# Altium footprint library MOLEX_105450-0101.PcbLib: 1 footprints
Each footprint in its own frame and in the unit in brackets; x right, y up, seen from the top. Pads: shape width x height; smd on the part's side, far side on the other; paste and mask are expansions set on the pad; w line width, h text height; cw(c..) or ccw(c..) is an arc to the next point about the centre after c.
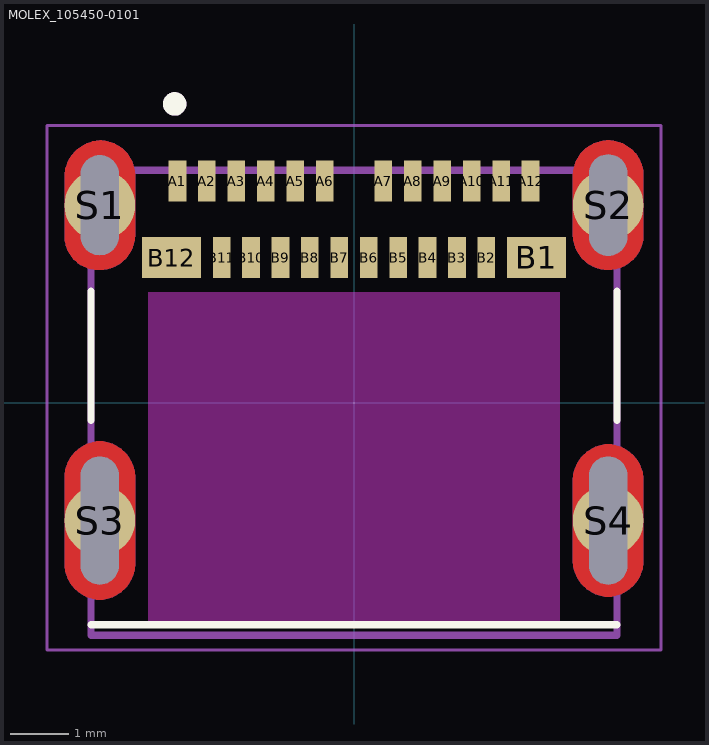
[diagram p0: the footprint, top view; thin cyan lines are the x and y axes]

## MOLEX_105450-0101 [mm]
pads (28):
  rect 0.3x0.7 smd: A1(-3,3.77) A2(-2.5,3.77) A3(-2,3.77) A4(-1.5,3.77) A5(-1,3.77) A6(-0.5,3.77) A7(0.5,3.77) A8(1,3.77) A9(1.5,3.77) A10(2,3.77) A11(2.5,3.77) A12(3,3.77) B2(2.25,2.47) B3(1.75,2.47) B4(1.25,2.47) B5(0.75,2.47) B6(0.25,2.47) B7(-0.25,2.47) B8(-0.75,2.47) B9(-1.25,2.47) B10(-1.75,2.47) B11(-2.25,2.47)
  rect 1x0.7 smd: B1(3.1,2.47) B12(-3.1,2.47)
  round 1.2 hole 0.65 slot 1.7 at 90 deg mask+0: S1(-4.32,3.36)
  round 1.2 hole 0.65 slot 1.725 at 90 deg mask+0: S2(4.32,3.36)
  round 1.2 hole 0.65 slot 2.175 at 90 deg mask+0: S3(-4.32,-2) S4(4.32,-2)
Top Layer:
  region: -4.289,4.459 -4.257,4.457 -4.226,4.453 -4.195,4.447 -4.165,4.44 -4.135,4.431 -4.105,4.42 -4.076,4.408 -4.048,4.395 -4.02,4.38 -3.993,4.363 -3.967,4.345 -3.942,4.326 -3.919,4.306 -3.896,4.284 -3.874,4.261 -3.854,4.238 -3.835,4.213 -3.817,4.187 -3.8,4.16 -3.785,4.132 -3.772,4.104 -3.76,4.075 -3.749,4.045 -3.74,4.015 -3.733,3.985 -3.727,3.954 -3.723,3.923 -3.721,3.891 -3.72,3.86 -3.72,2.86 -3.721,2.829 -3.723,2.797 -3.727,2.766 -3.733,2.735 -3.74,2.705 -3.749,2.675 -3.76,2.645 -3.772,2.616 -3.785,2.588 -3.8,2.56 -3.817,2.533 -3.835,2.507 -3.854,2.482 -3.874,2.459 -3.896,2.436 -3.919,2.414 -3.942,2.394 -3.967,2.375 -3.993,2.357 -4.02,2.34 -4.048,2.325 -4.076,2.312 -4.105,2.3 -4.135,2.289 -4.165,2.28 -4.195,2.273 -4.226,2.267 -4.257,2.263 -4.289,2.261 -4.32,2.26 -4.355,2.26 -4.385,2.261 -4.415,2.264 -4.445,2.268 -4.474,2.274 -4.504,2.282 -4.532,2.291 -4.561,2.301 -4.588,2.313 -4.615,2.327 -4.641,2.342 -4.667,2.358 -4.691,2.375 -4.715,2.394 -4.738,2.414 -4.759,2.435 -4.779,2.457 -4.799,2.481 -4.816,2.505 -4.833,2.53 -4.848,2.556 -4.862,2.583 -4.875,2.61 -4.886,2.638 -4.895,2.667 -4.903,2.696 -4.91,2.725 -4.915,2.755 -4.918,2.785 -4.92,2.81 -4.92,3.81 -4.92,3.846 -4.919,3.879 -4.916,3.911 -4.911,3.944 -4.904,3.976 -4.896,4.007 -4.886,4.039 -4.875,4.069 -4.862,4.099 -4.847,4.129 -4.831,4.157 -4.814,4.185 -4.795,4.211 -4.774,4.237 -4.752,4.262 -4.73,4.285 -4.705,4.307 -4.68,4.328 -4.654,4.347 -4.626,4.365 -4.598,4.382 -4.569,4.397 -4.539,4.411 -4.509,4.423 -4.478,4.433 -4.446,4.442 -4.414,4.449 -4.382,4.454 -4.35,4.458 -4.32,4.46
  region: 4.351,4.459 4.383,4.457 4.414,4.453 4.445,4.447 4.475,4.44 4.505,4.431 4.535,4.42 4.564,4.408 4.592,4.395 4.62,4.38 4.647,4.363 4.673,4.345 4.698,4.326 4.721,4.306 4.744,4.284 4.766,4.261 4.786,4.238 4.805,4.213 4.823,4.187 4.84,4.16 4.855,4.132 4.868,4.104 4.88,4.075 4.891,4.045 4.9,4.015 4.907,3.985 4.913,3.954 4.917,3.923 4.919,3.891 4.92,3.86 4.92,2.86 4.919,2.829 4.917,2.797 4.913,2.766 4.907,2.735 4.9,2.705 4.891,2.675 4.88,2.645 4.868,2.616 4.855,2.588 4.84,2.56 4.823,2.533 4.805,2.507 4.786,2.482 4.766,2.459 4.744,2.436 4.721,2.414 4.698,2.394 4.673,2.375 4.647,2.357 4.62,2.34 4.592,2.325 4.564,2.312 4.535,2.3 4.505,2.289 4.475,2.28 4.445,2.273 4.414,2.267 4.383,2.263 4.351,2.261 4.32,2.26 4.289,2.261 4.257,2.263 4.226,2.267 4.195,2.273 4.165,2.28 4.135,2.289 4.105,2.3 4.076,2.312 4.048,2.325 4.02,2.34 3.993,2.357 3.967,2.375 3.942,2.394 3.919,2.414 3.896,2.436 3.874,2.459 3.854,2.482 3.835,2.507 3.817,2.533 3.8,2.56 3.785,2.588 3.772,2.616 3.76,2.645 3.749,2.675 3.74,2.705 3.733,2.735 3.727,2.766 3.723,2.797 3.721,2.829 3.72,2.86 3.72,3.86 3.721,3.891 3.723,3.923 3.727,3.954 3.733,3.985 3.74,4.015 3.749,4.045 3.76,4.075 3.772,4.104 3.785,4.132 3.8,4.16 3.817,4.187 3.835,4.213 3.854,4.238 3.874,4.261 3.896,4.284 3.919,4.306 3.942,4.326 3.967,4.345 3.993,4.363 4.02,4.38 4.048,4.395 4.076,4.408 4.105,4.42 4.135,4.431 4.165,4.44 4.195,4.447 4.226,4.453 4.257,4.457 4.289,4.459 4.32,4.46
  region: -4.29,-0.652 -4.258,-0.656 -4.226,-0.661 -4.194,-0.668 -4.162,-0.677 -4.131,-0.687 -4.101,-0.699 -4.071,-0.713 -4.042,-0.728 -4.014,-0.745 -3.986,-0.763 -3.96,-0.782 -3.935,-0.803 -3.91,-0.825 -3.888,-0.848 -3.866,-0.873 -3.845,-0.899 -3.826,-0.925 -3.809,-0.953 -3.793,-0.981 -3.778,-1.011 -3.765,-1.041 -3.754,-1.071 -3.744,-1.103 -3.736,-1.134 -3.729,-1.166 -3.724,-1.199 -3.721,-1.231 -3.72,-1.264 -3.72,-1.3 -3.72,-2.7 -3.72,-2.736 -3.721,-2.769 -3.724,-2.801 -3.729,-2.834 -3.736,-2.866 -3.744,-2.897 -3.754,-2.929 -3.765,-2.959 -3.778,-2.989 -3.793,-3.019 -3.809,-3.047 -3.826,-3.075 -3.845,-3.101 -3.866,-3.127 -3.888,-3.152 -3.91,-3.175 -3.935,-3.197 -3.96,-3.218 -3.986,-3.237 -4.014,-3.255 -4.042,-3.272 -4.071,-3.287 -4.101,-3.301 -4.131,-3.313 -4.162,-3.323 -4.194,-3.332 -4.226,-3.339 -4.258,-3.344 -4.29,-3.348 -4.32,-3.35 -4.35,-3.348 -4.382,-3.344 -4.414,-3.339 -4.446,-3.332 -4.478,-3.323 -4.509,-3.313 -4.539,-3.301 -4.569,-3.287 -4.598,-3.272 -4.626,-3.255 -4.654,-3.237 -4.68,-3.218 -4.705,-3.197 -4.73,-3.175 -4.752,-3.152 -4.774,-3.127 -4.795,-3.101 -4.814,-3.075 -4.831,-3.047 -4.847,-3.019 -4.862,-2.989 -4.875,-2.959 -4.886,-2.929 -4.896,-2.897 -4.904,-2.866 -4.911,-2.834 -4.916,-2.801 -4.919,-2.769 -4.92,-2.736 -4.92,-2.7 -4.92,-1.3 -4.92,-1.264 -4.919,-1.231 -4.916,-1.199 -4.911,-1.166 -4.904,-1.134 -4.896,-1.103 -4.886,-1.071 -4.875,-1.041 -4.862,-1.011 -4.847,-0.981 -4.831,-0.953 -4.814,-0.925 -4.795,-0.899 -4.774,-0.873 -4.752,-0.848 -4.73,-0.825 -4.705,-0.803 -4.68,-0.782 -4.654,-0.763 -4.626,-0.745 -4.598,-0.728 -4.569,-0.713 -4.539,-0.699 -4.509,-0.687 -4.478,-0.677 -4.446,-0.668 -4.414,-0.661 -4.382,-0.656 -4.35,-0.652 -4.32,-0.65
  region: 4.35,-0.702 4.382,-0.706 4.414,-0.711 4.446,-0.718 4.478,-0.727 4.509,-0.737 4.539,-0.749 4.569,-0.763 4.598,-0.778 4.626,-0.795 4.654,-0.813 4.68,-0.832 4.705,-0.853 4.73,-0.875 4.752,-0.898 4.774,-0.923 4.795,-0.949 4.814,-0.975 4.831,-1.003 4.847,-1.031 4.862,-1.061 4.875,-1.091 4.886,-1.121 4.896,-1.153 4.904,-1.184 4.911,-1.216 4.916,-1.249 4.919,-1.281 4.92,-1.314 4.92,-1.35 4.92,-2.65 4.92,-2.686 4.919,-2.719 4.916,-2.751 4.911,-2.784 4.904,-2.816 4.896,-2.847 4.886,-2.879 4.875,-2.909 4.862,-2.939 4.847,-2.969 4.831,-2.997 4.814,-3.025 4.795,-3.051 4.774,-3.077 4.752,-3.102 4.73,-3.125 4.705,-3.147 4.68,-3.168 4.654,-3.187 4.626,-3.205 4.598,-3.222 4.569,-3.237 4.539,-3.251 4.509,-3.263 4.478,-3.273 4.446,-3.282 4.414,-3.289 4.382,-3.294 4.35,-3.298 4.32,-3.3 4.29,-3.298 4.258,-3.294 4.226,-3.289 4.194,-3.282 4.162,-3.273 4.131,-3.263 4.101,-3.251 4.071,-3.237 4.042,-3.222 4.014,-3.205 3.986,-3.187 3.96,-3.168 3.935,-3.147 3.91,-3.125 3.888,-3.102 3.866,-3.077 3.845,-3.051 3.826,-3.025 3.809,-2.997 3.793,-2.969 3.778,-2.939 3.765,-2.909 3.754,-2.879 3.744,-2.847 3.736,-2.816 3.729,-2.784 3.724,-2.751 3.721,-2.719 3.72,-2.686 3.72,-2.65 3.72,-1.35 3.72,-1.314 3.721,-1.281 3.724,-1.249 3.729,-1.216 3.736,-1.184 3.744,-1.153 3.754,-1.121 3.765,-1.091 3.778,-1.061 3.793,-1.031 3.809,-1.003 3.826,-0.975 3.845,-0.949 3.866,-0.923 3.888,-0.898 3.91,-0.875 3.935,-0.853 3.96,-0.832 3.986,-0.813 4.014,-0.795 4.042,-0.778 4.071,-0.763 4.101,-0.749 4.131,-0.737 4.162,-0.727 4.194,-0.718 4.226,-0.711 4.258,-0.706 4.29,-0.702 4.32,-0.7
Bottom Layer:
  region: -4.289,4.459 -4.257,4.457 -4.226,4.453 -4.195,4.447 -4.165,4.44 -4.135,4.431 -4.105,4.42 -4.076,4.408 -4.048,4.395 -4.02,4.38 -3.993,4.363 -3.967,4.345 -3.942,4.326 -3.919,4.306 -3.896,4.284 -3.874,4.261 -3.854,4.238 -3.835,4.213 -3.817,4.187 -3.8,4.16 -3.785,4.132 -3.772,4.104 -3.76,4.075 -3.749,4.045 -3.74,4.015 -3.733,3.985 -3.727,3.954 -3.723,3.923 -3.721,3.891 -3.72,3.86 -3.72,2.86 -3.721,2.829 -3.723,2.797 -3.727,2.766 -3.733,2.735 -3.74,2.705 -3.749,2.675 -3.76,2.645 -3.772,2.616 -3.785,2.588 -3.8,2.56 -3.817,2.533 -3.835,2.507 -3.854,2.482 -3.874,2.459 -3.896,2.436 -3.919,2.414 -3.942,2.394 -3.967,2.375 -3.993,2.357 -4.02,2.34 -4.048,2.325 -4.076,2.312 -4.105,2.3 -4.135,2.289 -4.165,2.28 -4.195,2.273 -4.226,2.267 -4.257,2.263 -4.289,2.261 -4.32,2.26 -4.355,2.26 -4.385,2.261 -4.415,2.264 -4.445,2.268 -4.474,2.274 -4.504,2.282 -4.532,2.291 -4.561,2.301 -4.588,2.313 -4.615,2.327 -4.641,2.342 -4.667,2.358 -4.691,2.375 -4.715,2.394 -4.738,2.414 -4.759,2.435 -4.779,2.457 -4.799,2.481 -4.816,2.505 -4.833,2.53 -4.848,2.556 -4.862,2.583 -4.875,2.61 -4.886,2.638 -4.895,2.667 -4.903,2.696 -4.91,2.725 -4.915,2.755 -4.918,2.785 -4.92,2.81 -4.92,3.81 -4.92,3.846 -4.919,3.879 -4.916,3.911 -4.911,3.944 -4.904,3.976 -4.896,4.007 -4.886,4.039 -4.875,4.069 -4.862,4.099 -4.847,4.129 -4.831,4.157 -4.814,4.185 -4.795,4.211 -4.774,4.237 -4.752,4.262 -4.73,4.285 -4.705,4.307 -4.68,4.328 -4.654,4.347 -4.626,4.365 -4.598,4.382 -4.569,4.397 -4.539,4.411 -4.509,4.423 -4.478,4.433 -4.446,4.442 -4.414,4.449 -4.382,4.454 -4.35,4.458 -4.32,4.46
  region: 4.351,4.459 4.383,4.457 4.414,4.453 4.445,4.447 4.475,4.44 4.505,4.431 4.535,4.42 4.564,4.408 4.592,4.395 4.62,4.38 4.647,4.363 4.673,4.345 4.698,4.326 4.721,4.306 4.744,4.284 4.766,4.261 4.786,4.238 4.805,4.213 4.823,4.187 4.84,4.16 4.855,4.132 4.868,4.104 4.88,4.075 4.891,4.045 4.9,4.015 4.907,3.985 4.913,3.954 4.917,3.923 4.919,3.891 4.92,3.86 4.92,2.86 4.919,2.829 4.917,2.797 4.913,2.766 4.907,2.735 4.9,2.705 4.891,2.675 4.88,2.645 4.868,2.616 4.855,2.588 4.84,2.56 4.823,2.533 4.805,2.507 4.786,2.482 4.766,2.459 4.744,2.436 4.721,2.414 4.698,2.394 4.673,2.375 4.647,2.357 4.62,2.34 4.592,2.325 4.564,2.312 4.535,2.3 4.505,2.289 4.475,2.28 4.445,2.273 4.414,2.267 4.383,2.263 4.351,2.261 4.32,2.26 4.289,2.261 4.257,2.263 4.226,2.267 4.195,2.273 4.165,2.28 4.135,2.289 4.105,2.3 4.076,2.312 4.048,2.325 4.02,2.34 3.993,2.357 3.967,2.375 3.942,2.394 3.919,2.414 3.896,2.436 3.874,2.459 3.854,2.482 3.835,2.507 3.817,2.533 3.8,2.56 3.785,2.588 3.772,2.616 3.76,2.645 3.749,2.675 3.74,2.705 3.733,2.735 3.727,2.766 3.723,2.797 3.721,2.829 3.72,2.86 3.72,3.86 3.721,3.891 3.723,3.923 3.727,3.954 3.733,3.985 3.74,4.015 3.749,4.045 3.76,4.075 3.772,4.104 3.785,4.132 3.8,4.16 3.817,4.187 3.835,4.213 3.854,4.238 3.874,4.261 3.896,4.284 3.919,4.306 3.942,4.326 3.967,4.345 3.993,4.363 4.02,4.38 4.048,4.395 4.076,4.408 4.105,4.42 4.135,4.431 4.165,4.44 4.195,4.447 4.226,4.453 4.257,4.457 4.289,4.459 4.32,4.46
  region: -4.29,-0.652 -4.258,-0.656 -4.226,-0.661 -4.194,-0.668 -4.162,-0.677 -4.131,-0.687 -4.101,-0.699 -4.071,-0.713 -4.042,-0.728 -4.014,-0.745 -3.986,-0.763 -3.96,-0.782 -3.935,-0.803 -3.91,-0.825 -3.888,-0.848 -3.866,-0.873 -3.845,-0.899 -3.826,-0.925 -3.809,-0.953 -3.793,-0.981 -3.778,-1.011 -3.765,-1.041 -3.754,-1.071 -3.744,-1.103 -3.736,-1.134 -3.729,-1.166 -3.724,-1.199 -3.721,-1.231 -3.72,-1.264 -3.72,-1.3 -3.72,-2.7 -3.72,-2.736 -3.721,-2.769 -3.724,-2.801 -3.729,-2.834 -3.736,-2.866 -3.744,-2.897 -3.754,-2.929 -3.765,-2.959 -3.778,-2.989 -3.793,-3.019 -3.809,-3.047 -3.826,-3.075 -3.845,-3.101 -3.866,-3.127 -3.888,-3.152 -3.91,-3.175 -3.935,-3.197 -3.96,-3.218 -3.986,-3.237 -4.014,-3.255 -4.042,-3.272 -4.071,-3.287 -4.101,-3.301 -4.131,-3.313 -4.162,-3.323 -4.194,-3.332 -4.226,-3.339 -4.258,-3.344 -4.29,-3.348 -4.32,-3.35 -4.35,-3.348 -4.382,-3.344 -4.414,-3.339 -4.446,-3.332 -4.478,-3.323 -4.509,-3.313 -4.539,-3.301 -4.569,-3.287 -4.598,-3.272 -4.626,-3.255 -4.654,-3.237 -4.68,-3.218 -4.705,-3.197 -4.73,-3.175 -4.752,-3.152 -4.774,-3.127 -4.795,-3.101 -4.814,-3.075 -4.831,-3.047 -4.847,-3.019 -4.862,-2.989 -4.875,-2.959 -4.886,-2.929 -4.896,-2.897 -4.904,-2.866 -4.911,-2.834 -4.916,-2.801 -4.919,-2.769 -4.92,-2.736 -4.92,-2.7 -4.92,-1.3 -4.92,-1.264 -4.919,-1.231 -4.916,-1.199 -4.911,-1.166 -4.904,-1.134 -4.896,-1.103 -4.886,-1.071 -4.875,-1.041 -4.862,-1.011 -4.847,-0.981 -4.831,-0.953 -4.814,-0.925 -4.795,-0.899 -4.774,-0.873 -4.752,-0.848 -4.73,-0.825 -4.705,-0.803 -4.68,-0.782 -4.654,-0.763 -4.626,-0.745 -4.598,-0.728 -4.569,-0.713 -4.539,-0.699 -4.509,-0.687 -4.478,-0.677 -4.446,-0.668 -4.414,-0.661 -4.382,-0.656 -4.35,-0.652 -4.32,-0.65
  region: 4.35,-0.702 4.382,-0.706 4.414,-0.711 4.446,-0.718 4.478,-0.727 4.509,-0.737 4.539,-0.749 4.569,-0.763 4.598,-0.778 4.626,-0.795 4.654,-0.813 4.68,-0.832 4.705,-0.853 4.73,-0.875 4.752,-0.898 4.774,-0.923 4.795,-0.949 4.814,-0.975 4.831,-1.003 4.847,-1.031 4.862,-1.061 4.875,-1.091 4.886,-1.121 4.896,-1.153 4.904,-1.184 4.911,-1.216 4.916,-1.249 4.919,-1.281 4.92,-1.314 4.92,-1.35 4.92,-2.65 4.92,-2.686 4.919,-2.719 4.916,-2.751 4.911,-2.784 4.904,-2.816 4.896,-2.847 4.886,-2.879 4.875,-2.909 4.862,-2.939 4.847,-2.969 4.831,-2.997 4.814,-3.025 4.795,-3.051 4.774,-3.077 4.752,-3.102 4.73,-3.125 4.705,-3.147 4.68,-3.168 4.654,-3.187 4.626,-3.205 4.598,-3.222 4.569,-3.237 4.539,-3.251 4.509,-3.263 4.478,-3.273 4.446,-3.282 4.414,-3.289 4.382,-3.294 4.35,-3.298 4.32,-3.3 4.29,-3.298 4.258,-3.294 4.226,-3.289 4.194,-3.282 4.162,-3.273 4.131,-3.263 4.101,-3.251 4.071,-3.237 4.042,-3.222 4.014,-3.205 3.986,-3.187 3.96,-3.168 3.935,-3.147 3.91,-3.125 3.888,-3.102 3.866,-3.077 3.845,-3.051 3.826,-3.025 3.809,-2.997 3.793,-2.969 3.778,-2.939 3.765,-2.909 3.754,-2.879 3.744,-2.847 3.736,-2.816 3.729,-2.784 3.724,-2.751 3.721,-2.719 3.72,-2.686 3.72,-2.65 3.72,-1.35 3.72,-1.314 3.721,-1.281 3.724,-1.249 3.729,-1.216 3.736,-1.184 3.744,-1.153 3.754,-1.121 3.765,-1.091 3.778,-1.061 3.793,-1.031 3.809,-1.003 3.826,-0.975 3.845,-0.949 3.866,-0.923 3.888,-0.898 3.91,-0.875 3.935,-0.853 3.96,-0.832 3.986,-0.813 4.014,-0.795 4.042,-0.778 4.071,-0.763 4.101,-0.749 4.131,-0.737 4.162,-0.727 4.194,-0.718 4.226,-0.711 4.258,-0.706 4.29,-0.702 4.32,-0.7
Top Overlay:
  circle w0.2: c-3.048,5.08 r0.1
  lines w0.127: -4.47,-3.77 4.47,-3.77 ; -4.47,-0.3 -4.47,1.9 ; 4.47,-0.3 4.47,1.9
Top Solder:
  drawing of 4 lines, arcs and shapes, not listed
Bottom Solder:
  drawing of 4 lines, arcs and shapes, not listed
Keep-Out Layer:
  region: 3.5,-3.77 -3.5,-3.77 -3.5,1.88 3.5,1.88
Mechanical 13:
  circle w0.2: c-3.048,5.08 r0.1
  lines w0.127: -4.47,-3.95 4.47,-3.95 4.47,3.95 -4.47,3.95 -4.47,-3.95
Mechanical 15:
  lines w0.05: -5.22,-4.2 5.22,-4.2 5.22,4.71 -5.22,4.71 -5.22,-4.2